# Altium footprint library AltiumDesigner.PcbLib: 12 footprints
Each footprint in its own frame and in the unit in brackets; x right, y up, seen from the top. Pads: shape width x height; smd on the part's side, far side on the other; paste and mask are expansions set on the pad; w line width, h text height; cw(c..) or ccw(c..) is an arc to the next point about the centre after c.
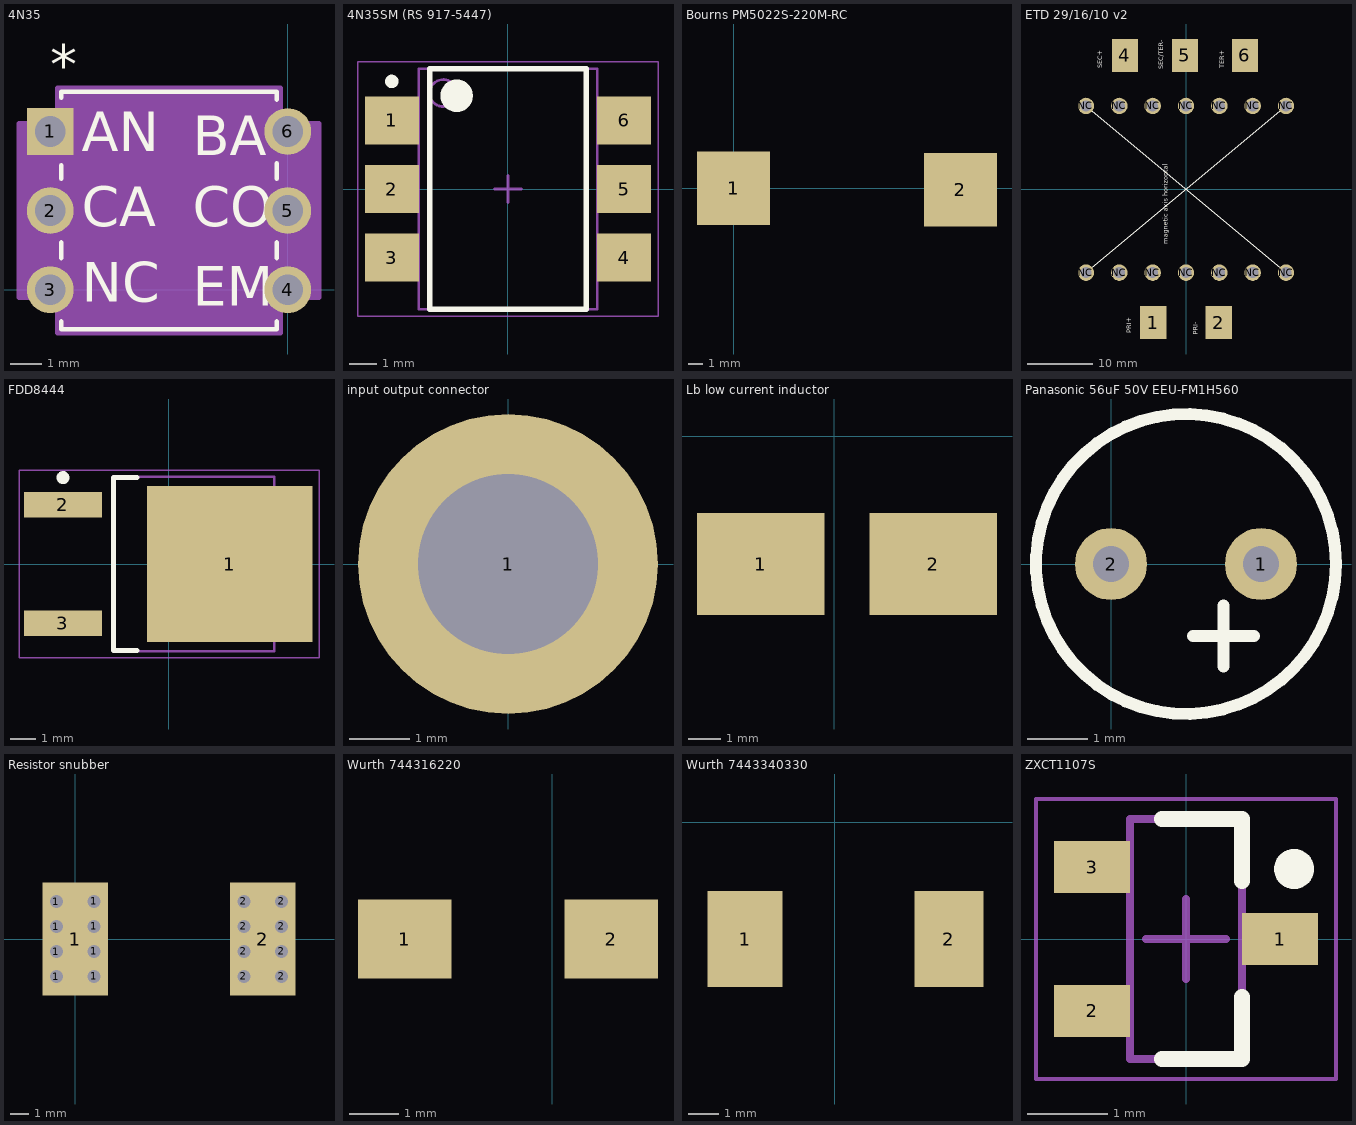
[diagram p0: the footprints below, top view; thin cyan lines are the x and y axes]

## 4N35 [mil]
pads (6):
  rect 59x59 / inner round 60 / far side rect 59x59 hole 39 paste+0 mask+0: 1(-300,200)
  round 59 / inner round 60 / far side round 59 hole 39 paste+0 mask+0: 2(-300,100) 3(-300,0) 4(0,0) 5(0,100) 6(0,200)
Top Overlay:
  lines w6: -286,-40.23 -286,-50 -14,-50 -14,-40.23 ; -286,40.23 -286,59.77 ; -286,140.23 -286,157.4 ; -286,242.6 -286,250 -14,250 -14,240.23 ; -14,40.23 -14,59.77 ; -14,140.23 -14,159.77
  text "EM" at -120,-20 h50
  text "CO" at -120,80 h50
  text "BA" at -120,170 h50
  text "NC" at -260,-15 h50
  text "CA" at -260,80 h50
  text "AN" at -260,175 h50
  text "*" at -300,259.5 h50
Mechanical 13:
  lines w0: -162,245 ccw(c-150,245) -138,245
  lines w1: -319.5,-19.5 -281,-19.5 -281,19.5 -319.5,19.5 -319.5,-19.5 ; -319.5,80.5 -281,80.5 -281,119.5 -319.5,119.5 -319.5,80.5 ; -319.5,180.5 -281,180.5 -281,219.5 -319.5,219.5 -319.5,180.5 ; -281,-45 -281,245 -19,245 -19,-45 -281,-45 ; -19,-19.5 19.5,-19.5 19.5,19.5 -19,19.5 -19,-19.5 ; -19,80.5 19.5,80.5 19.5,119.5 -19,119.5 -19,80.5 ; -19,180.5 19.5,180.5 19.5,219.5 -19,219.5 -19,180.5
  text "*" at -271,200 h50
Mechanical 15:
  region: -9,-10 39.5,-10 39.5,210 -9,210 -9,255 -291,255 -291,210 -339.5,210 -339.5,-10 -291,-10 -291,-55 -9,-55
  lines w6: -339.5,-10 -291,-10 -291,-55 -9,-55 -9,-10 39.5,-10 39.5,210 -9,210 -9,255 -291,255 -291,210 -339.5,210 -339.5,-10
3D body: height 10, standoff 0, extent 0,0 10,10

## 4N35SM (RS 917-5447) [mm] "SOP, 6-Leads, Body 8,51x6,35mm, Pitch 2,54mm, IPC Medium Density"
height 5.08
pads (6):
  rect 2x1.78 smd: 1(-4.3,2.54) 2(-4.3,0) 3(-4.3,-2.54) 4(4.3,-2.54) 5(4.3,0) 6(4.3,2.54)
Top Overlay:
  circle w0.25: c-4.3,3.98 r0.125
  circle w0.6: c-1.9,3.45 r0.3
  lines w0.2: -2.9,-4.45 -2.9,4.45 2.9,4.45 2.9,-4.45 -2.9,-4.45
Mechanical 13:
  circle w0.1: c-2.4,3.55 r0.5
  lines w0.1: -3.3,-4.45 -3.3,4.45 3.3,4.45 3.3,-4.45 -3.3,-4.45
Mechanical 15:
  lines w0.05: -5.55,-4.7 -5.55,4.7 5.55,4.7 5.55,-4.7 -5.55,-4.7
  lines w0.1: -0.5,0 0.5,0 ; 0,-0.5 0,0.5
3D body "4N35SM (RS 917-5447).step": height 5.08, standoff 0, extent -4.582,-4.45 4.583,4.45

## Bourns PM5022S-220M-RC [mm]
pads (2):
  rect 5x5 smd: 1(0,0) 2(15.5,-0.1)
3D body: height 6.6, standoff 0, extent 1.5,-6 13.5,6

## ETD 29/16/10 v2 [mm]
pads (20):
  rect 4x5 smd: 1(-5,-20.311) 2(5,-20.311) 4(-9.3,20.4) 5(-0.156,20.4) 6(8.988,20.4)
  rect 1x1 smd paste+0 mask+0.102: 3(-0.156,20.4)
  round 2.5 hole 1.7 paste+0 mask+0.102: NC(-15.24,-12.7) NC(-15.24,12.7) NC(-10.16,-12.7) NC(-10.16,12.7) NC(-5.08,-12.7) NC(-5.08,12.7) NC(0,-12.7) NC(0,12.7) NC(5.08,-12.7) NC(5.08,12.7) NC(10.16,-12.7) NC(10.16,12.7) NC(15.24,-12.7) NC(15.24,12.7)
Top Overlay:
  lines w0.05: -15.24,-12.7 15.24,12.7 ; -15.24,12.7 15.24,-12.7
  text "PRI-" at 1.794,-22.155 h0.75
  text "PRI+" at -8.366,-21.901 h0.75
  text "SEC+" at -12.73,18.434 h0.75
  text "SEC/TER-" at -3.459,18.307 h0.75
  text "TER+" at 5.812,18.434 h0.75
  text "magnetic axis horizontal" at -2.794,-8.382 h0.75
3D body: height 25, standoff 0.5, extent -17.6,-17.5 17.6,17.6

## FDD8444 [mm] "D-PAK, 3-Pads, Body 6,21x6,73mm (max), IPC Medium Density"
height 2.39
pads (3):
  rect 6.4x6.05 smd: 1(2.35,0)
  rect 3x1 smd: 2(-4.1,2.29) 3(-4.1,-2.29)
Top Overlay:
  circle w0.25: c-4.1,3.34 r0.125
  lines w0.2: -1.25,-3.35 -2.15,-3.35 -2.15,3.35 -1.25,3.35
Mechanical 13:
  lines w0.1: -2.15,-3.375 -2.15,3.375 4.07,3.375 4.07,-3.375 -2.15,-3.375
Mechanical 15:
  lines w0.05: -5.8,-3.625 -5.8,3.625 5.8,3.625 5.8,-3.625 -5.8,-3.625
  lines w0.1: -0.5,0 0.5,0 ; 0,-0.5 0,0.5
3D body "FDD8444.step": height 2.39, standoff 0, extent -4.39,-3.375 5.515,3.375

## input output connector [mm]
pads (1):
  round 5 hole 3: 1(0,0)

## Lb low current inductor [mm]
pads (2):
  rect 4x3.2 smd paste+0 mask+0: 1(-2.3,-4) 2(3.1,-4)
3D body: height 4.3, standoff 0, extent -4,-8.05 4.8,0.05

## Panasonic 56uF 50V EEU-FM1H560 [mm]
pads (2):
  round 1.2 hole 0.6: 1(2.5,0) 2(0,0)
Top Overlay:
  circle w0.2: c1.25,0 r2.5
  lines w0.2: 1.367,-1.2 2.383,-1.2 ; 1.875,-1.708 1.875,-0.692

## Resistor snubber [mm]
pads (18):
  round 0.7 hole 0.7 paste+0 mask+0: 1(-1,-2) 1(-1,-0.667) 1(-1,0.667) 1(-1,2) 1(1,-2) 1(1,-0.667) 1(1,0.667) 1(1,2) 2(9,-2) 2(9,-0.667) 2(9,0.667) 2(9,2) 2(11,-2) 2(11,-0.667) 2(11,0.667) 2(11,2)
  rect 3.5x6 smd paste+0 mask+0.102: 1(0,0) 2(10,0)

## Wurth 744316220 [mm]
pads (2):
  rect 1.9x1.6 smd paste+0 mask+0: 1(-3,-3.9) 2(1.2,-3.9)
3D body: height 4.3, standoff 0, extent -3.7,-6.95 1.9,-1.05

## Wurth 7443340330 [mm]
pads (2):
  rect 2.5x3.2 smd paste+0 mask+0: 1(-3,-3.9)
  rect 2.3x3.2 smd paste+0 mask+0: 2(3.8,-3.9)
3D body: height 4.3, standoff 0, extent -4.2,-8.05 4.6,0.05

## ZXCT1107S [mm] "SOT23, 3-Leads, Body 2,90x2,40mm, Pitch 0,90mm, IPC Medium Density"
height 1.1
pads (3):
  rect 0.95x0.65 smd: 1(1.175,0) 2(-1.175,-0.9) 3(-1.175,0.9)
Top Overlay:
  circle w0.25: c1.35,0.875 r0.125
  lines w0.2: -0.3,-1.5 0.7,-1.5 0.7,-0.725 ; -0.3,1.5 0.7,1.5 0.7,0.725
Mechanical 13:
  lines w0.1: -0.7,-1.5 -0.7,1.5 0.7,1.5 0.7,-1.5 -0.7,-1.5
Mechanical 15:
  lines w0.05: -1.875,-1.75 -1.875,1.75 1.875,1.75 1.875,-1.75 -1.875,-1.75
  lines w0.1: -0.5,0 0.5,0 ; 0,-0.5 0,0.5
3D body: height 1.1, standoff 0.05, extent -0.7,-1.5 0.7,1.5